# EAGLE library part DIPSWITCH6 (library Custom_old)
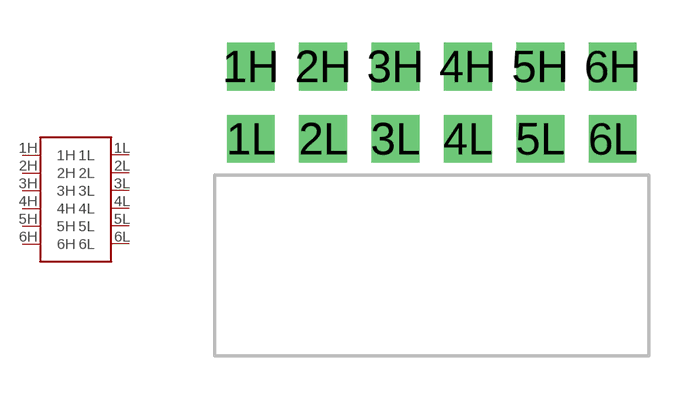
[diagram p22: symbol with the pads of DIPSWITCH6; footprint DIPSWITCH6]

Designator prefix -

## DIPSWITCH6  [DIPSWITCH6]
1H  1H
1L  1L
2H  2H
2L  2L
3H  3H
3L  3L
4H  4H
4L  4L
5H  5H
5L  5L
6H  6H
6L  6L

## Footprint DIPSWITCH6 (pad centres in mm)
drill 1.118 square: 1H 0,2.54; 1L 0,0; 2H 2.54,2.54; 2L 2.54,0; 3H 5.08,2.54; 3L 5.08,0; 4H 7.62,2.54; 4L 7.62,0; 5H 10.16,2.54; 5L 10.16,0; 6H 12.7,2.54; 6L 12.7,0